# EAGLE library part FPS009-2405-0 (library con-yamaichi)
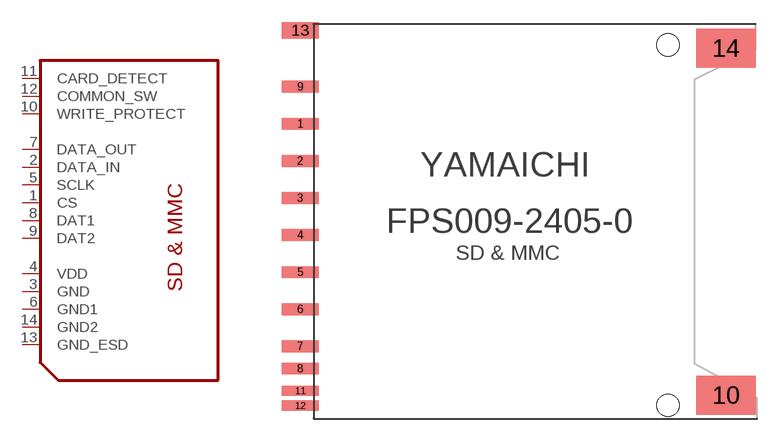
[diagram p31: symbol with the pads of FPS009-2405; footprint FPS009-2405]

Designator prefix SD

## FPS009-2405-0  [FPS009-2405]
1  CS
2  DATA_IN
3  GND
4  VDD
5  SCLK
6  GND1
7  DATA_OUT
8  DAT1
9  DAT2
10  WRITE_PROTECT
11  CARD_DETECT
12  COMMON_SW
13  GND_ESD
14  GND2

## Footprint FPS009-2405 (pad centres in mm)
smd 2.5 x 0.8: 1 -14.27,6.88; 2 -14.27,4.38; 3 -14.27,1.88; 4 -14.27,-0.62; 5 -14.27,-3.12; 6 -14.27,-5.62; 7 -14.27,-8.12; 8 -14.27,-9.62; 9 -14.27,9.38
smd 4 x 2.65: 10 14.4,-11.42; 14 14.4,11.98
smd 2.5 x 0.7: 11 -14.27,-11.12; 12 -14.27,-12.12
smd 2.5 x 1.1: 13 -14.27,13.18
hole 1.5 at 10.5,12.2
hole 1.5 at 10.5,-12.1